# EAGLE library part 61202422021 (library Wurth_Elektronik_Electromechanic_Wire_to_Board_Connectors_rev16a)
WR-BHD 2.54mm Male Box Header With Lever, 24 Pins=>Code : Con_WTB_BHD_2.54_Male_THT_WS_61202422021 <http://katalog.we-online.de/media/thumbs2/eican/thb_Con_WTB_BHD_2.54_Male_THT_WS_6120xx22021_pf2.jpg> Details see: http://katalog.we-online.de/en/em/612_0xx_220_21 Created 2014-06-05, Karrer Zheng 2014 (C) Würth Elektronik
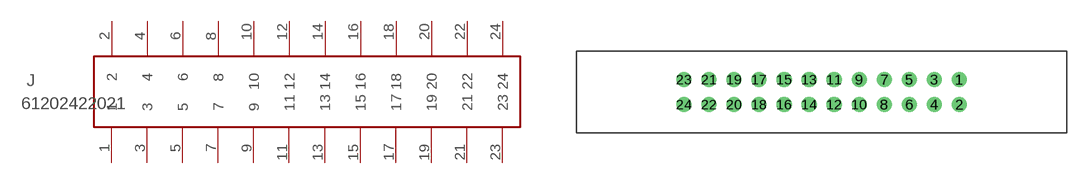
[diagram p160: symbol with the pads of 61202422021; footprint 61202422021]

Designator prefix J

## 61202422021  [61202422021]
1  1  pas
2  2  pas
3  3  pas
4  4  pas
5  5  pas
6  6  pas
7  7  pas
8  8  pas
9  9  pas
10  10  pas
11  11  pas
12  12  pas
13  13  pas
14  14  pas
15  15  pas
16  16  pas
17  17  pas
18  18  pas
19  19  pas
20  20  pas
21  21  pas
22  22  pas
23  23  pas
24  24  pas

## Footprint 61202422021 (pad centres in mm)
WR-BHD 2.54mm Male Box Header With Lever, 24 Pins
drill 1.02: 1 13.97,1.27; 2 13.97,-1.27; 3 11.43,1.27; 4 11.43,-1.27; 5 8.89,1.27; 6 8.89,-1.27; 7 6.35,1.27; 8 6.35,-1.27; 9 3.81,1.27; 10 3.81,-1.27; 11 1.27,1.27; 12 1.27,-1.27; 13 -1.27,1.27; 14 -1.27,-1.27; 15 -3.81,1.27; 16 -3.81,-1.27; 17 -6.35,1.27; 18 -6.35,-1.27; 19 -8.89,1.27; 20 -8.89,-1.27; 21 -11.43,1.27; 22 -11.43,-1.27; 23 -13.97,1.27; 24 -13.97,-1.27